# Altium footprint library UM_Connector_v2.PcbLib: 1 footprints
Each footprint in its own frame and in the unit in brackets; x right, y up, seen from the top. Pads: shape width x height; smd on the part's side, far side on the other; paste and mask are expansions set on the pad; w line width, h text height; cw(c..) or ccw(c..) is an arc to the next point about the centre after c.
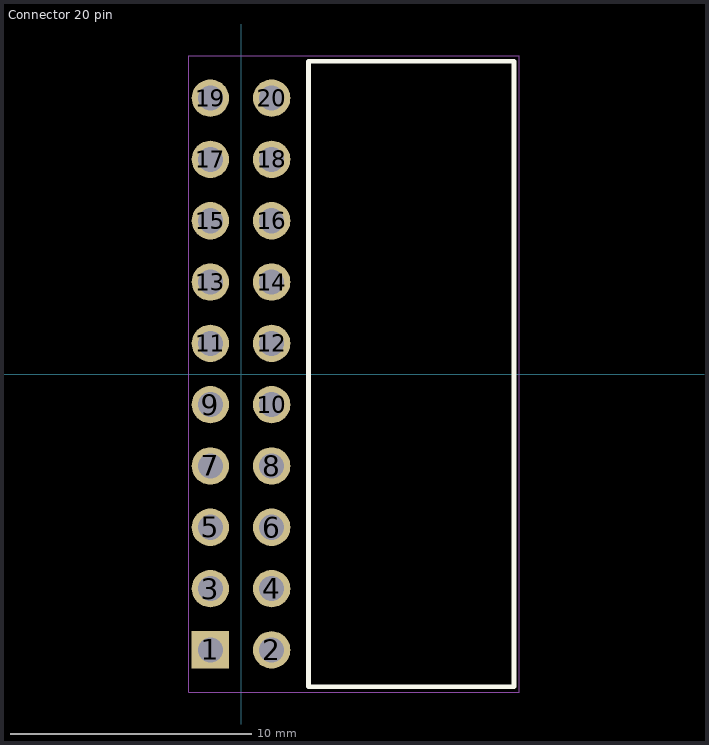
[diagram p0: the footprint, top view; thin cyan lines are the x and y axes]

## Connector 20 pin [mm] "Horizontal 20 pin connector for UM"
pads (20):
  rect 1.55x1.55 hole 1.04: 1(-1.27,-11.43)
  round 1.55 hole 1.04: 2(1.27,-11.43) 3(-1.27,-8.89) 4(1.27,-8.89) 5(-1.27,-6.35) 6(1.27,-6.35) 7(-1.27,-3.81) 8(1.27,-3.81) 9(-1.27,-1.27) 10(1.27,-1.27) 11(-1.27,1.27) 12(1.27,1.27) 13(-1.27,3.81) 14(1.27,3.81) 15(-1.27,6.35) 16(1.27,6.35) 17(-1.27,8.89) 18(1.27,8.89) 19(-1.27,11.43) 20(1.27,11.43)
Top Overlay:
  lines w0.2: 2.794,-12.955 2.794,12.955 11.304,12.955 11.304,-12.955 2.794,-12.955
Mechanical 13:
  lines w0.1: 2.794,-12.955 11.304,-12.955 11.304,12.955 2.794,12.955 2.794,-12.955
Mechanical 15:
  lines w0.05: -2.17,-13.18 11.529,-13.18 11.529,13.18 -2.17,13.18 -2.17,-13.18
3D body "SSW-105-02-X-D-RA.step": height 4.95, standoff -2.54, extent -1.473,-12.954 11.303,0.254
3D body "SSW-105-02-X-D-RA.step": height 4.95, standoff -2.54, extent -1.473,-0.254 11.303,12.954